# Altium footprint library RcMPPT-SCC.PcbLib: 36 footprints (part 1 of 3)
Each footprint in its own frame and in the unit in brackets; x right, y up, seen from the top. Pads: shape width x height; smd on the part's side, far side on the other; paste and mask are expansions set on the pad; w line width, h text height; cw(c..) or ccw(c..) is an arc to the next point about the centre after c.
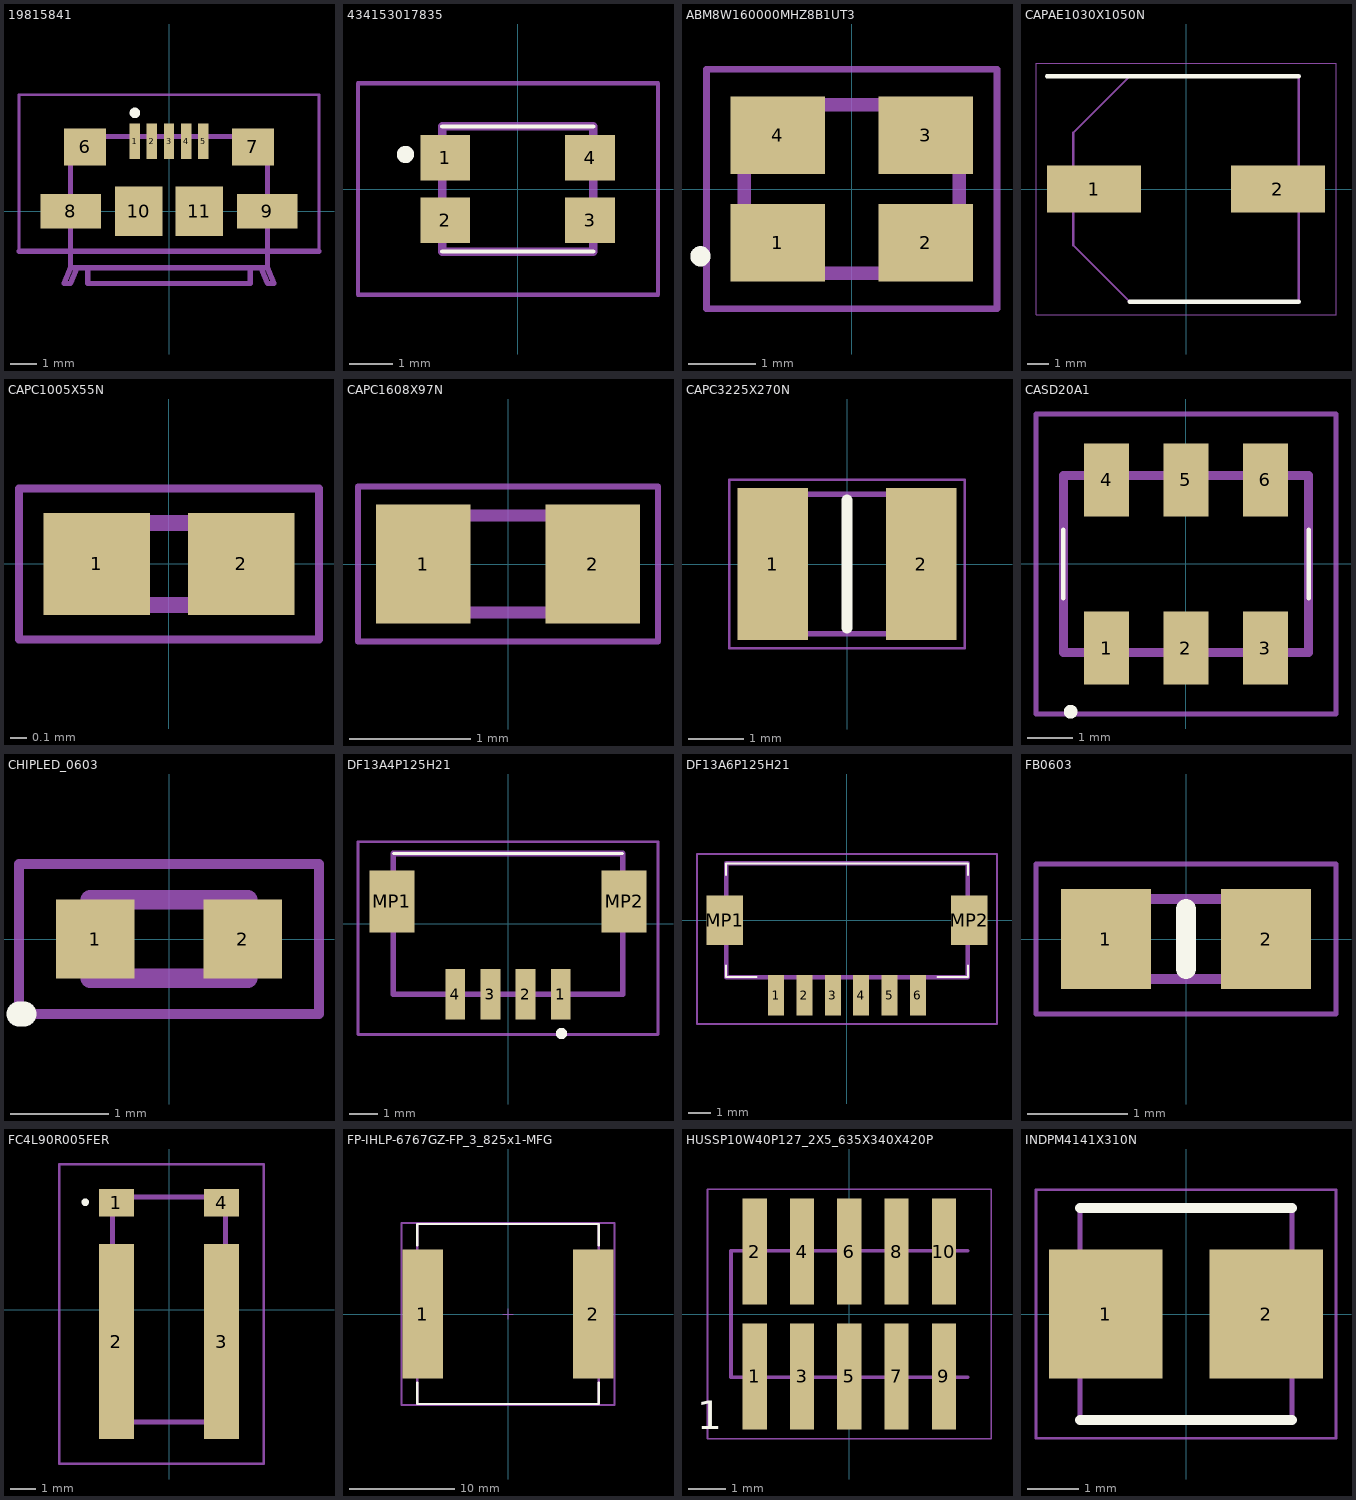
[diagram p0: the footprints below, top view; thin cyan lines are the x and y axes]

## 19815841 [mm]
pads (11):
  rect 0.4x1.35 smd: 1(-1.3,2.675) 2(-0.65,2.675) 3(0,2.675) 4(0.65,2.675) 5(1.3,2.675)
  rect 1.6x1.4 smd: 6(-3.2,2.45) 7(3.2,2.45)
  rect 2.3x1.3 smd: 8(-3.75,0) 9(3.75,0)
  rect 1.8x1.9 smd: 10(-1.15,0) 11(1.15,0)
Top Overlay:
  lines w0.2: -1.4,3.75 cw(c-1.3,3.75) -1.2,3.75 cw(c-1.3,3.75) -1.4,3.75
Mechanical 13:
  lines w0.2: -5.715,-1.524 5.715,-1.524 ; -3.5,-2.15 -3.75,-2.75 -4,-2.75 -3.75,-2.15 ; -3.1,-2.15 -3.1,-2.75 3.1,-2.75 3.1,-2.15 ; 3.5,-2.15 3.75,-2.75 4,-2.75 3.75,-2.15 ; -3.75,-2.15 -3.75,2.85 3.75,2.85 3.75,-2.15 ; -3.75,-2.15 3.75,-2.15
Mechanical 15:
  lines w0.1: -5.715,-1.524 -5.715,4.445 5.715,4.445 5.715,-1.524 -5.715,-1.524
3D body "1981584-1.stp": height 2.8, standoff -0.26, extent -4.4,-2.925 4.4,2.675

## 434153017835 [mm]
pads (4):
  rect 1.15x1.05 smd: 1(-1.675,0.725) 2(-1.675,-0.725) 3(1.675,-0.725) 4(1.675,0.725)
Top Overlay:
  circle w0.2: c-2.6,0.8 r0.1
  circle w0.2: c-2.6,0.8 r0.1
  lines w0.1: -1.75,-1.45 1.75,-1.45 ; -1.75,1.45 1.75,1.45
Mechanical 13:
  lines w0.2: -1.75,-1.45 1.75,-1.45 1.75,1.45 -1.75,1.45 -1.75,-1.45
Mechanical 15:
  lines w0.1: -3.7,-2.45 3.25,-2.45 3.25,2.45 -3.7,2.45 -3.7,-2.45
3D body "434153017835.stp": height 1.1, standoff 0, extent -2.145,-1.45 2.145,1.45

## ABM8W160000MHZ8B1UT3 [mm]
pads (4):
  rect 1.4x1.15 smd: 1(-1.1,-0.8) 2(1.1,-0.8) 3(1.1,0.8) 4(-1.1,0.8)
Top Overlay:
  lines w0.2: -2.3,-1 ccw(c-2.25,-1) -2.2,-1 ccw(c-2.25,-1) -2.3,-1
Mechanical 13:
  lines w0.2: -1.6,-1.25 -1.6,1.25 1.6,1.25 1.6,-1.25 -1.6,-1.25
Mechanical 15:
  lines w0.1: -2.159,-1.778 -2.159,1.778 2.159,1.778 2.159,-1.778 -2.159,-1.778
3D body "ABM8W-16.0000MHZ-8-B1U-T3.stp": height 0.85, standoff 0, extent -1.685,-1.26 1.685,1.26

## CAPAE1030X1050N [mm]
pads (2):
  rect 4.3x2.15 smd: 1(-4.2,0) 2(4.2,0)
Top Overlay:
  lines w0.2: -6.35,5.15 5.15,5.15 ; -2.575,-5.15 5.15,-5.15
Mechanical 13:
  lines w0.1: -5.15,-2.575 -2.575,-5.15 5.15,-5.15 5.15,5.15 -2.575,5.15 -5.15,2.575 -5.15,-2.575
Mechanical 15:
  lines w0.05: -6.85,-5.75 -6.85,5.75 6.85,5.75 6.85,-5.75 -6.85,-5.75
3D body "UUX2A470MNL1GS.stp": height 10.5, standoff 0, extent -5.65,-5.25 5.65,5.25

## CAPC1005X55N [mm]
pads (2):
  rect 0.65x0.62 smd: 1(-0.44,0) 2(0.44,0)
Mechanical 13:
  lines w0.1: -0.5,-0.25 -0.5,0.25 0.5,0.25 0.5,-0.25 -0.5,-0.25
Mechanical 15:
  lines w0.05: -0.915,-0.46 -0.915,0.46 0.915,0.46 0.915,-0.46 -0.915,-0.46
3D body "C0402C689C5GACAUTO.stp": height 0.55, standoff 0, extent -0.5,-0.25 0.5,0.25

## CAPC1608X97N [mm]
pads (2):
  rect 0.78x0.98 smd: 1(-0.7,0) 2(0.7,0)
Mechanical 13:
  lines w0.1: -0.8,-0.4 -0.8,0.4 0.8,0.4 0.8,-0.4 -0.8,-0.4
Mechanical 15:
  lines w0.05: -1.24,-0.64 -1.24,0.64 1.24,0.64 1.24,-0.64 -1.24,-0.64
3D body "VJ0603Y104JXJAC.stp": height 0.97, standoff 0, extent -0.8,-0.4 0.8,0.4

## CAPC3225X270N [mm]
pads (2):
  rect 1.26x2.72 smd: 1(-1.33,0) 2(1.33,0)
Top Overlay:
  lines w0.2: 0,-1.15 0,1.15
Mechanical 13:
  lines w0.1: -1.6,-1.25 1.6,-1.25 1.6,1.25 -1.6,1.25 -1.6,-1.25
Mechanical 15:
  lines w0.05: -2.11,-1.51 2.11,-1.51 2.11,1.51 -2.11,1.51 -2.11,-1.51
3D body "GRM32EC72A106KE05L.stp": height 2.7, standoff 0, extent -1.6,-1.25 1.6,1.25

## CASD20A1 [mm]
pads (6):
  rect 1x1.6 smd: 1(-1.75,-1.85) 2(0,-1.85) 3(1.75,-1.85) 4(-1.75,1.85) 5(0,1.85) 6(1.75,1.85)
Top Overlay:
  lines w0.1: -2.7,-0.75 -2.7,0.75 -2.7,-0.75 ; 2.7,-0.75 2.7,0.75 2.7,-0.75
  lines w0.2: -2.54,-3.302 cw(c-2.54,-3.252) -2.54,-3.202 cw(c-2.54,-3.252) -2.54,-3.302
Mechanical 13:
  lines w0.2: -2.7,-1.95 2.7,-1.95 2.7,1.95 -2.7,1.95 -2.7,-1.95
Mechanical 15:
  lines w0.1: -3.302,-3.302 3.302,-3.302 3.302,3.302 -3.302,3.302 -3.302,-3.302
3D body "CAS-D20A1.stp": height 2.6, standoff 0, extent -2.7,-2.55 2.7,2.55

## CHIPLED_0603 [mm]
pads (2):
  rect 0.8x0.8 smd: 1(-0.75,0) 2(0.75,0)
Top Overlay:
  lines w0.254: -1.524,-0.762 -1.473,-0.762
Mechanical 13:
  lines w0.2: -0.8,-0.4 -0.8,0.4 0.8,0.4 0.8,-0.4 -0.8,-0.4
Mechanical 15:
  lines w0.1: -1.524,-0.762 -1.524,0.762 1.524,0.762 1.524,-0.762 -1.524,-0.762
3D body "LG_Q396-PS-35.stp": height 0.5, standoff 0, extent -0.8,-0.4 0.8,0.4

## DF13A4P125H21 [mm]
pads (6):
  rect 0.7x1.8 smd: 1(1.875,-2.5) 2(0.625,-2.5) 3(-0.625,-2.5) 4(-1.875,-2.5)
  rect 1.6x2.2 smd: MP1(-4.125,0.8) MP2(4.125,0.8)
Top Overlay:
  lines w0.1: -4.075,2.5 4.075,2.5
  lines w0.2: 1.9,-4 ccw(c1.9,-3.9) 1.9,-3.8 ccw(c1.9,-3.9) 1.9,-4
Mechanical 13:
  lines w0.2: -4.075,-2.5 -4.075,2.5 4.075,2.5 4.075,-2.5 -4.075,-2.5
Mechanical 15:
  lines w0.1: -5.334,-3.937 -5.334,2.921 5.334,2.921 5.334,-3.937 -5.334,-3.937
3D body "DF13A-4P-1.25H_21_.stp": height 3.7, standoff 0, extent -4.765,-3.33 4.765,2.5

## DF13A6P125H21 [mm]
pads (8):
  rect 0.7x1.8 smd: 1(-3.125,-3.3) 2(-1.875,-3.3) 3(-0.625,-3.3) 4(0.625,-3.3) 5(1.875,-3.3) 6(3.125,-3.3)
  rect 1.6x2.2 smd: MP1(-5.375,0) MP2(5.375,0)
Top Overlay:
  lines w0.1: -5.325,-2 -5.325,-2.5 -4,-2.5 ; -5.325,2 -5.325,2.5 5.325,2.5 5.325,2 ; 4,-2.5 5.325,-2.5 5.325,-2
Mechanical 13:
  lines w0.2: -5.325,-2.5 5.325,-2.5 5.325,2.5 -5.325,2.5 -5.325,-2.5
Mechanical 15:
  lines w0.1: -6.604,-4.572 6.604,-4.572 6.604,2.921 -6.604,2.921 -6.604,-4.572
3D body "DF13A-6P-1.25H_21_.stp": height 3.85, standoff 0, extent -6.015,-4.13 6.015,2.5

## FB0603 [mm]
pads (2):
  rect 0.9x1 smd: 1(-0.8,0) 2(0.8,0)
Top Overlay:
  lines w0.2: 0,-0.3 0,0.3
Mechanical 13:
  lines w0.1: -0.8,-0.4 0.8,-0.4 0.8,0.4 -0.8,0.4 -0.8,-0.4
Mechanical 15:
  lines w0.05: -1.5,-0.75 1.5,-0.75 1.5,0.75 -1.5,0.75 -1.5,-0.75
3D body "MPZ1608S221ATA00.stp": height 0.75, standoff 0, extent -0.8,-0.4 0.8,0.4

## FC4L90R005FER [mm]
pads (4):
  rect 1.4x1.1 smd: 1(-2.1,4.275) 4(2.1,4.275)
  rect 1.4x7.8 smd: 2(-2.1,-1.275) 3(2.1,-1.275)
Top Overlay:
  lines w0.2: -3.4,4.3 ccw(c-3.35,4.3) -3.3,4.3 ; -3.4,4.3 cw(c-3.35,4.3) -3.3,4.3 ; -3.4,4.3 ccw(c-3.35,4.3) -3.3,4.3
Mechanical 13:
  lines w0.2: -2.25,-4.5 2.25,-4.5 2.25,4.5 -2.25,4.5 -2.25,-4.5
Mechanical 15:
  lines w0.1: -4.4,-6.175 3.8,-6.175 3.8,5.825 -4.4,5.825 -4.4,-6.175
3D body "FC4L90R005FER.stp": height 0.9, standoff 0, extent -2.69,-5.035 2.69,4.715

## FP-IHLP-6767GZ-FP_3_825x1-MFG [mm]
pads (2):
  rect 3.825x12.32 smd paste+0 mask+0: 1(-8.117,0) 2(8.117,0)
Top Overlay:
  lines w0.2: -8.638,-6.535 -8.638,-8.575 8.638,-8.575 8.638,-6.535 ; -8.638,6.535 -8.638,8.575 8.638,8.575 8.638,6.535
Top 3D Body:
  lines w0.2: -8.638,-8.575 -8.638,8.575 8.638,8.575 8.638,-8.575 -8.638,-8.575
Top Courtyard:
  lines w0.2: -10.13,-8.675 -10.13,8.675 10.13,8.675 10.13,-8.675 -10.13,-8.675
Top Assembly:
  lines w0.2: -10.13,-8.675 -10.13,8.675 10.13,8.675 10.13,-8.675 -10.13,-8.675
  text ".Designator" at 0,0.188 h1
Top Component Center:
  lines w0.1: -0.5,0 0.5,0 ; 0,-0.5 0,0.5
3D body "Ind_Vishay_IHLP6767GZER1R5M11_eec.STEP": height 0.25, standoff 0, extent -10.13,-8.675 10.13,8.675

## HUSSP10W40P127_2X5_635X340X420P [mm]
pads (10):
  rect 0.65x2.85 smd: 1(-2.54,-1.675) 2(-2.54,1.675) 3(-1.27,-1.675) 4(-1.27,1.675) 5(0,-1.675) 6(0,1.675) 7(1.27,-1.675) 8(1.27,1.675) 9(2.54,-1.675) 10(2.54,1.675)
Top Overlay:
  text "1" at -4.089,-3.099 h0.76
Mechanical 13:
  lines w0.1: 3.175,-1.7 -3.175,-1.7 -3.175,1.7 3.175,1.7
Mechanical 15:
  lines w0.05: -3.81,-3.35 -3.81,3.35 3.81,3.35 3.81,-3.35 -3.81,-3.35
3D body "M50-3600542R.stp": height 5.13, standoff 0, extent -3.325,-2.75 3.325,2.75

## INDPM4141X310N [mm]
pads (2):
  rect 2.2x2.5 smd: 1(-1.55,0) 2(1.55,0)
Top Overlay:
  lines w0.2: -2.05,-2.05 2.05,-2.05 ; -2.05,2.05 2.05,2.05
Mechanical 13:
  lines w0.1: -2.05,-2.05 2.05,-2.05 2.05,2.05 -2.05,2.05 -2.05,-2.05
Mechanical 15:
  lines w0.05: -2.9,-2.4 2.9,-2.4 2.9,2.4 -2.9,2.4 -2.9,-2.4
3D body "78438357100.stp": height 3.1, standoff 0, extent -2.05,-2.05 2.05,2.05